# EAGLE library part SHT3 (library df4iah_sensors)
SHT3x-DIS - Humidity and Temperature Sensor Variant Huminity tolerance Temperature tolerance SHT30-DIS +/- 3.0% RH +/- 0.3°C @ 0°C .. 65°C SHT31-DIS +/- 2.0% RH +/- 0.3°C @ -40°C .. 90°C SHT35-DIS +/- 1.5% RH +/- 0.2°C @ -40°C .. 90°C
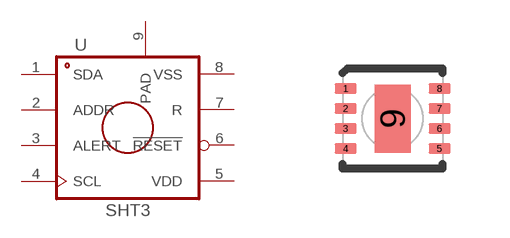
[diagram p1: symbol with the pads of DFN8/SHT; footprint DFN8/SHT]

Designator prefix U

## SHT30-DIS, SHT31-DIS, SHT35-DIS  [DFN8/SHT]
1  SDA
2  ADDR  in
3  ALERT  out
4  SCL  in
5  VDD  pwr
6  !RESET  pas
7  R  pas
8  VSS  pas
9  PAD  pas

## Footprint DFN8/SHT (pad centres in mm)
DFN 8 / SHT3x-DIS package body 2.5x2.5mm, pitch 0.5mm
smd 0.55 x 0.25: 1 0.075,2; 2 0.075,1.5; 3 0.075,1; 4 0.075,0.5; 5 2.425,0.5; 6 2.425,1; 7 2.425,1.5; 8 2.425,2
smd 0.9 x 1.7: 9 1.25,1.25